# EAGLE library part HA1457 (library pedals-integrated circuits)
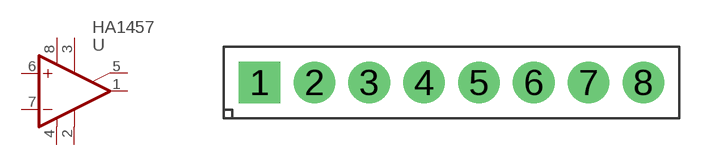
[diagram p34: symbol with the pads of SIL8; footprint SIL8]

Designator prefix -

## HA1457  [SIL8]
1  OUT  out
2  OPT  pas
3  ON1  pas
4  V-  pwr
5  ON2  pas
6  +IN  in
7  -IN  in
8  V+  pwr

## Footprint SIL8 (pad centres in mm)
drill 1 pad 1.93 square: 1 -8.89,0
drill 1 pad 1.93: 2 -6.35,0; 3 -3.81,0; 4 -1.27,0; 5 1.27,0; 6 3.81,0; 7 6.35,0; 8 8.89,0